# EAGLE library part IN-12A (library IN-12A)
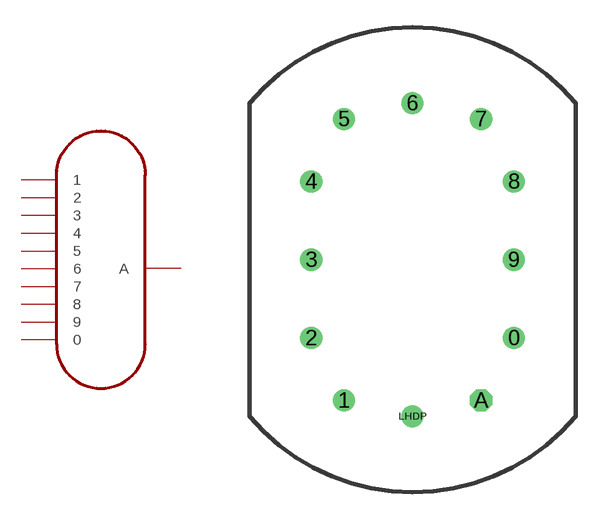
[diagram p0: symbol with the pads of IN-12; footprint IN-12]

Designator prefix N

## IN-12A-IN-12  [IN-12]
0  0
1  1
2  2
3  3
4  4
5  5
6  6
7  7
8  8
9  9
A  A

## Footprint IN-12 (pad centres in mm)
drill 0.711: 0 5.59,-4.32; 1 -3.78,-7.766; 2 -5.59,-4.32; 3 -5.59,0; 4 -5.59,4.32; 5 -3.78,7.766; 6 0,8.64; 7 3.78,7.766; 8 5.59,4.32; 9 5.59,0; LHDP 0,-8.64
drill 0.711 octagon: A 3.78,-7.766